# EAGLE library part NCP51820 (library NCP51820)
High Speed Half-Bridge Driver for GaN Power Switches High-Speed 650V 200 V/ns dV/dt Source: Datasheet <https://www.onsemi.com/download/data-sheet/pdf/ncp51820-d.pdf>
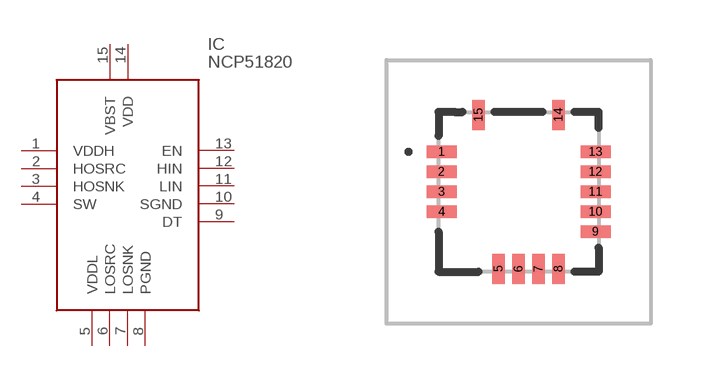
[diagram p0: symbol with the pads of NCP51820; footprint NCP51820]

Designator prefix IC

## NCP51820 (Description: High Speed Half-Bridge Driver for GaN Power Switches High-Speed 650V 200 V/ns dV/dt; Height: 0.9mm; Manufacturer_Name: onsemi; Manufacturer_Part_Number: NCP51820; Mouser_Part_Number: N/A; Mouser_Price-Stock: https://www.mouser.co.uk/ProductDetail/onsemi/NCP51820?qs=vEM7xhTegWhaPMdkL3AwCA%3D%3D)  [NCP51820]
1  VDDH
2  HOSRC
3  HOSNK
4  SW
5  VDDL
6  LOSRC
7  LOSNK
8  PGND
9  DT
10  SGND
11  LIN
12  HIN
13  EN
14  VDD
15  VBST

## Footprint NCP51820 (pad centres in mm)
QFN15 4x4, 0.5P CASE 485FN ISSUE B
smd 0.75 x 0.32: 1 -1.925,1; 2 -1.925,0.5; 3 -1.925,0; 4 -1.925,-0.5; 9 1.925,-1; 10 1.925,-0.5; 11 1.925,0; 12 1.925,0.5; 13 1.925,1
smd 0.32 x 0.75: 5 -0.5,-1.925; 6 0,-1.925; 7 0.5,-1.925; 8 1,-1.925; 14 1,1.925; 15 -1,1.925